# Altium footprint library Conn_Molex_2039560203_eec_MFG.PcbLib: 1 footprints
Each footprint in its own frame and in the unit in brackets; x right, y up, seen from the top. Pads: shape width x height; smd on the part's side, far side on the other; paste and mask are expansions set on the pad; w line width, h text height; cw(c..) or ccw(c..) is an arc to the next point about the centre after c.
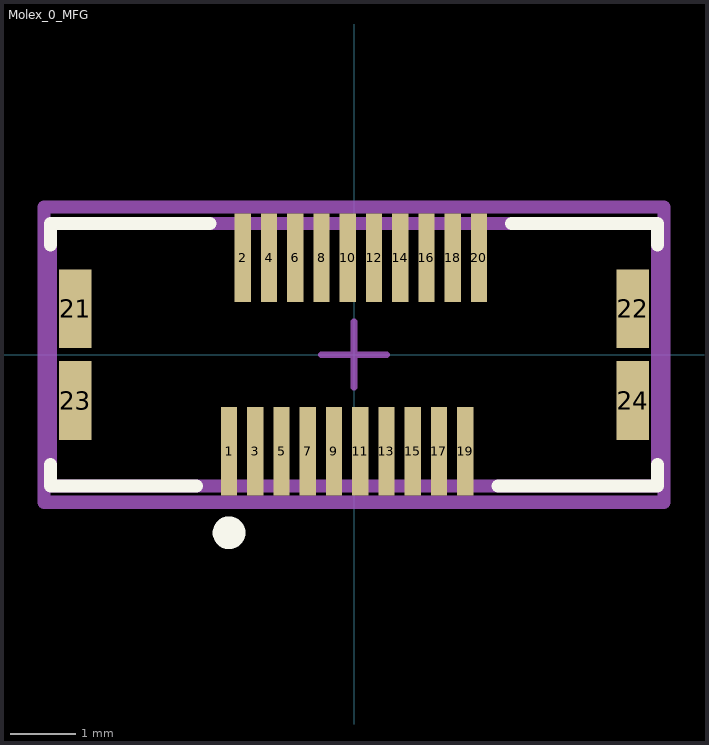
[diagram p0: the footprint, top view; thin cyan lines are the x and y axes]

## Molex_0_MFG [mm]
pads (24):
  rect 0.25x1.35 smd paste+0 mask+0: 1(-1.905,-1.475) 2(-1.695,1.475) 3(-1.505,-1.475) 4(-1.295,1.475) 5(-1.105,-1.475) 6(-0.895,1.475) 7(-0.705,-1.475) 8(-0.495,1.475) 9(-0.305,-1.475) 10(-0.095,1.475) 11(0.095,-1.475) 12(0.305,1.475) 13(0.495,-1.475) 14(0.705,1.475) 15(0.895,-1.475) 16(1.105,1.475) 17(1.295,-1.475) 18(1.505,1.475) 19(1.695,-1.475) 20(1.905,1.475)
  rect 0.5x1.2 smd paste+0 mask+0: 21(-4.25,0.7) 22(4.25,0.7) 23(-4.25,-0.7) 24(4.25,-0.7)
Top Overlay:
  circle w0.25: c-1.905,-2.715 r0.125
  lines w0.2: -4.625,-1.675 -4.625,-2 -2.405,-2 ; -4.625,1.675 -4.625,2 -2.195,2 ; 2.195,-2 4.625,-2 4.625,-1.675 ; 2.405,2 4.625,2 4.625,1.675
Mechanical 10:
  lines w0.2: -4.725,-2.25 4.725,-2.25 4.725,2.25 -4.725,2.25 -4.725,-2.25
  text ".Designator" at 0,0.188 h1
Mechanical 12:
  lines w0.2: -4.625,-2 4.625,-2 4.625,2 -4.625,2 -4.625,-2
Mechanical 15:
  lines w0.1: -0.5,0 0.5,0 ; 0,-0.5 0,0.5
  lines w0.2: -4.725,-2.25 4.725,-2.25 4.725,2.25 -4.725,2.25 -4.725,-2.25
3D body "Conn_Molex_2039560203_eec.STEP": height 0.25, standoff 0, extent -4.725,-2.25 4.725,2.25